# Altium footprint library 01000020Z_20mm.PcbLib: 1 footprints
Each footprint in its own frame and in the unit in brackets; x right, y up, seen from the top. Pads: shape width x height; smd on the part's side, far side on the other; paste and mask are expansions set on the pad; w line width, h text height; cw(c..) or ccw(c..) is an arc to the next point about the centre after c.
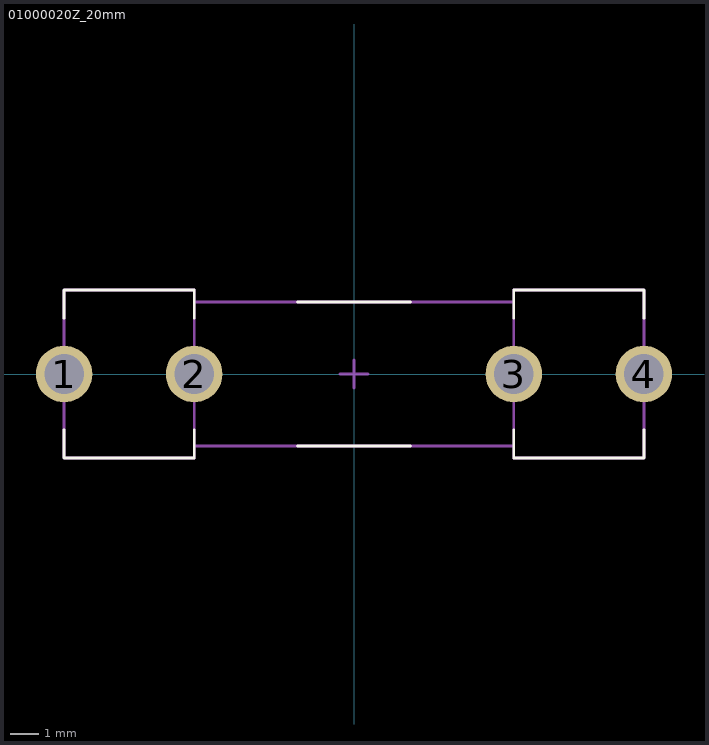
[diagram p0: the footprint, top view; thin cyan lines are the x and y axes]

## 01000020Z_20mm [mm]
height 14.2
pads (4):
  round 2 hole 1.4: 1(-10.25,0) 2(-5.65,0) 3(5.65,0) 4(10.25,0)
Top Overlay:
  lines w0.1: -10.25,-2.975 -5.65,-2.975 ; -10.25,-2.97 -10.25,-1.97 ; -10.25,1.97 -10.25,2.97 ; -10.25,2.975 -5.65,2.975 ; -5.65,-2.97 -5.65,-1.97 ; -5.65,1.97 -5.65,2.97 ; -2,-2.55 2,-2.55 ; -2,2.55 2,2.55 ; 5.65,-1.975 5.65,-2.975 10.25,-2.975 ; 5.65,1.97 5.65,2.97 ; 5.65,2.975 10.25,2.975 ; 10.25,-2.97 10.25,-1.97 ; 10.25,1.97 10.25,2.97
Mechanical 13:
  lines w0.1: -10.25,-2.975 -5.65,-2.975 ; -10.25,-2.97 -10.25,2.97 ; -10.25,2.975 -5.65,2.975 ; -5.65,-2.97 -5.65,2.97 ; -5.65,-2.55 5.65,-2.55 ; -5.65,2.55 5.65,2.55 ; 5.65,-2.975 10.25,-2.975 ; 5.65,-2.97 5.65,2.97 ; 5.65,2.975 10.25,2.975 ; 10.25,-2.97 10.25,2.97
  text "2.5mm" at 16.675,-2.35 h1.52
Mechanical 15:
  lines w0.1: -0.5,0 0,0 ; 0,-0.5 0,0 ; 0,0.5 0,0 ; 0.5,0 0,0
3D body "Cartridge Fuse 5x15mm.STEP": height 9.55, standoff 4.45, extent -10,-2.55 10,2.55
3D body "01000020Z.stp": height 8.38, standoff -3.35, extent 5.399,-2.764 10.5,2.764
3D body "01000020Z.stp": height 8.38, standoff -3.35, extent -10.501,-2.764 -5.4,2.764